# Altium footprint library TE_282834-3.PcbLib: 1 footprints
Each footprint in its own frame and in the unit in brackets; x right, y up, seen from the top. Pads: shape width x height; smd on the part's side, far side on the other; paste and mask are expansions set on the pad; w line width, h text height; cw(c..) or ccw(c..) is an arc to the next point about the centre after c.
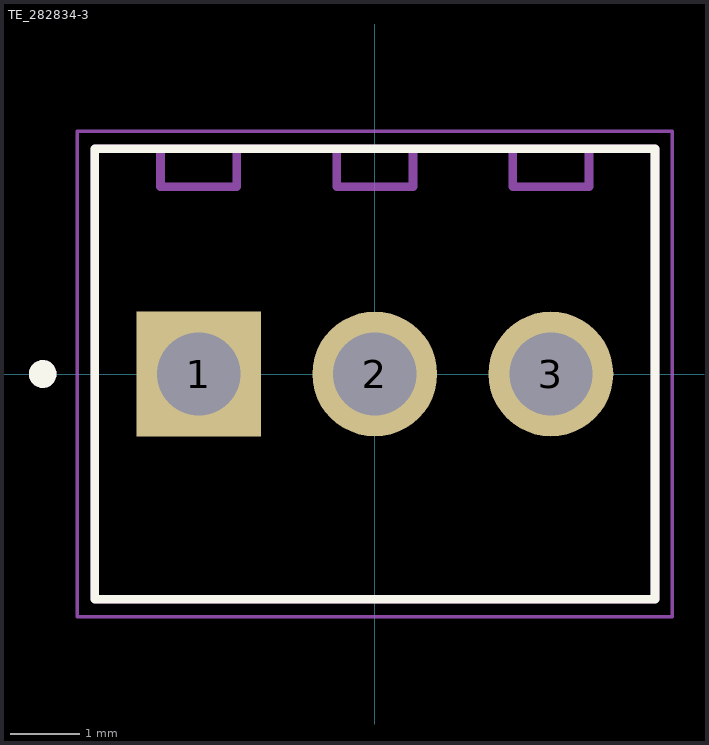
[diagram p0: the footprint, top view; thin cyan lines are the x and y axes]

## TE_282834-3 [mm]
height 10
pads (3):
  rect 1.8x1.8 / inner round 1.8 / far side rect 1.8x1.8 hole 1.2: 1(-2.54,0)
  round 1.8 hole 1.2: 2(0,0) 3(2.54,0)
Top Overlay:
  circle w0.2: c-4.79,0 r0.1
  lines w0.127: -4.04,-3.25 4.04,-3.25 4.04,3.25 -4.04,3.25 -4.04,-3.25
Assembly Top:
  circle w0.2: c-4.79,0 r0.1
  lines w0.127: -3.09,3.2 -3.09,2.7 -1.99,2.7 -1.99,3.2 ; -0.55,3.2 -0.55,2.7 0.55,2.7 0.55,3.2 ; 1.99,3.2 1.99,2.7 3.09,2.7 3.09,3.2 ; -4.04,-3.25 4.04,-3.25 4.04,3.25 -4.04,3.25 -4.04,-3.25
Courtyard Top:
  lines w0.05: -4.29,-3.5 -4.29,3.5 4.29,3.5 4.29,-3.5 -4.29,-3.5
3D body "step_temp.STEP": height 10, standoff -3.4, extent -4.04,-3.25 4.04,3.25